# Altium schematic symbol library VND5012AK.SchLib: 1 symbol
Pins are listed as number, name and electrical type; pins without a type are passive.

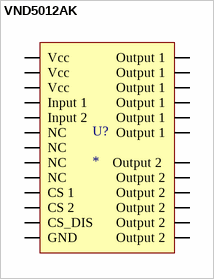
[diagram p0: symbol VND5012AK]

## VND5012AK
designator U?
pins: 1 Vcc, 2 GND, 3 NC, 4 Input 2, 5 NC, 6 Input 1, 7 NC, 8 CS 1, 9 NC, 10 CS 2, 11 CS_DIS, 12 Vcc, 13 Output 1, 14 Output 1, 15 Output 1, 16 Output 1, 17 Output 1, 18 Output 1, 19 Output 2 , 20 Output 2, 21 Output 2, 22 Output 2, 23 Output 2, 24 Output 2, 25 Vcc